# Altium footprint library AMPHENOL_F31L-1A7H1-11006.PcbLib: 1 footprints
Each footprint in its own frame and in the unit in brackets; x right, y up, seen from the top. Pads: shape width x height; smd on the part's side, far side on the other; paste and mask are expansions set on the pad; w line width, h text height; cw(c..) or ccw(c..) is an arc to the next point about the centre after c.
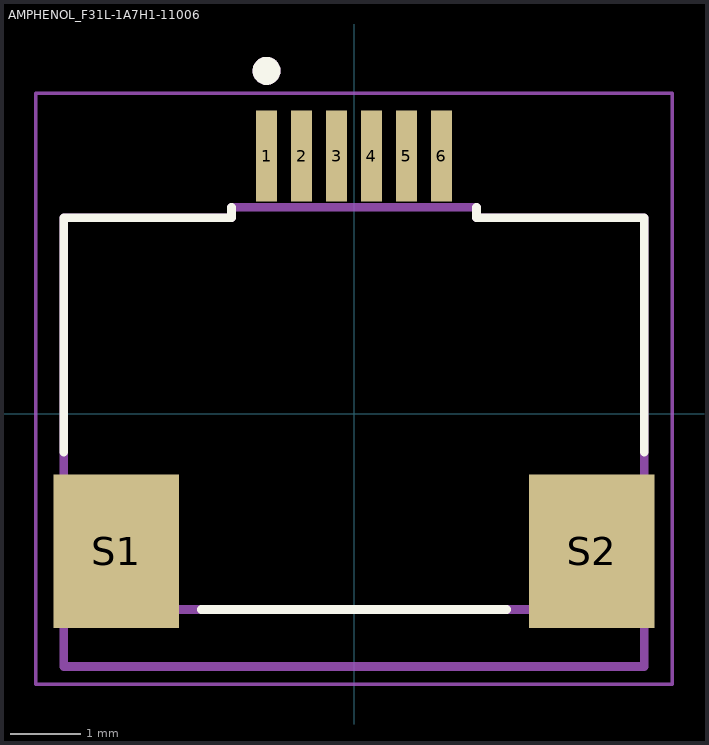
[diagram p0: the footprint, top view; thin cyan lines are the x and y axes]

## AMPHENOL_F31L-1A7H1-11006 [mm]
height 5.3
pads (8):
  rect 0.3x1.3 smd mask+0.05: 1(-1.25,3.68) 2(-0.75,3.68) 3(-0.25,3.68) 4(0.25,3.68) 5(0.75,3.68) 6(1.25,3.68)
  rect 1.8x2.2 smd mask+0.05: S1(-3.4,-1.97) S2(3.4,-1.97)
Top Overlay:
  circle w0.2: c-1.25,4.9 r0.1
  lines w0.127: -4.15,-0.55 -4.15,2.8 -1.75,2.8 -1.75,2.95 ; -2.18,-2.8 2.18,-2.8 ; 1.75,2.95 1.75,2.8 4.15,2.8 4.15,-0.55
Mechanical 13:
  circle w0.2: c-1.25,4.9 r0.1
  lines w0.127: -4.15,-2.8 -4.15,2.8 -1.75,2.8 -1.75,2.95 1.75,2.95 1.75,2.8 4.15,2.8 4.15,-2.8 ; -4.15,-2.8 -4.15,-3.62 4.15,-3.62 4.15,-2.8 ; -4.15,-2.8 4.15,-2.8
Mechanical 15:
  lines w0.05: -4.55,-3.87 -4.55,4.58 4.55,4.58 4.55,-3.87 -4.55,-3.87
3D body "step_temp.STEP": height 2.5, standoff -0.05, extent -4.143,-3.614 4.157,3.956